# EAGLE library part HE10_H_16 (library BlueBoard)
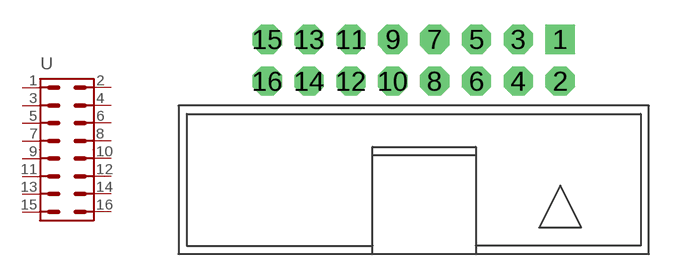
[diagram p28: symbol with the pads of CON_2X_2.54_H_16; footprint CON_2X_2.54_H_16]

Designator prefix -

## HE10_H_16  [CON_2X_2.54_H_16]
1  1
2  2
3  3
4  4
5  5
6  6
7  7
8  8
9  9
10  10
11  11
12  12
13  13
14  14
15  15
16  16

## Footprint CON_2X_2.54_H_16 (pad centres in mm)
drill 1 pad 1.778 square: 1 8.89,2.54
drill 1 pad 1.778 octagon: 2 8.89,0; 3 6.35,2.54; 4 6.35,0; 5 3.81,2.54; 6 3.81,0; 7 1.27,2.54; 8 1.27,0; 9 -1.27,2.54; 10 -1.27,0; 11 -3.81,2.54; 12 -3.81,0; 13 -6.35,2.54; 14 -6.35,0; 15 -8.89,2.54; 16 -8.89,0